# Altium integrated library Altium_WCAP-CSGP (rev22a).IntLib: 953 symbols (part 17 of 17)
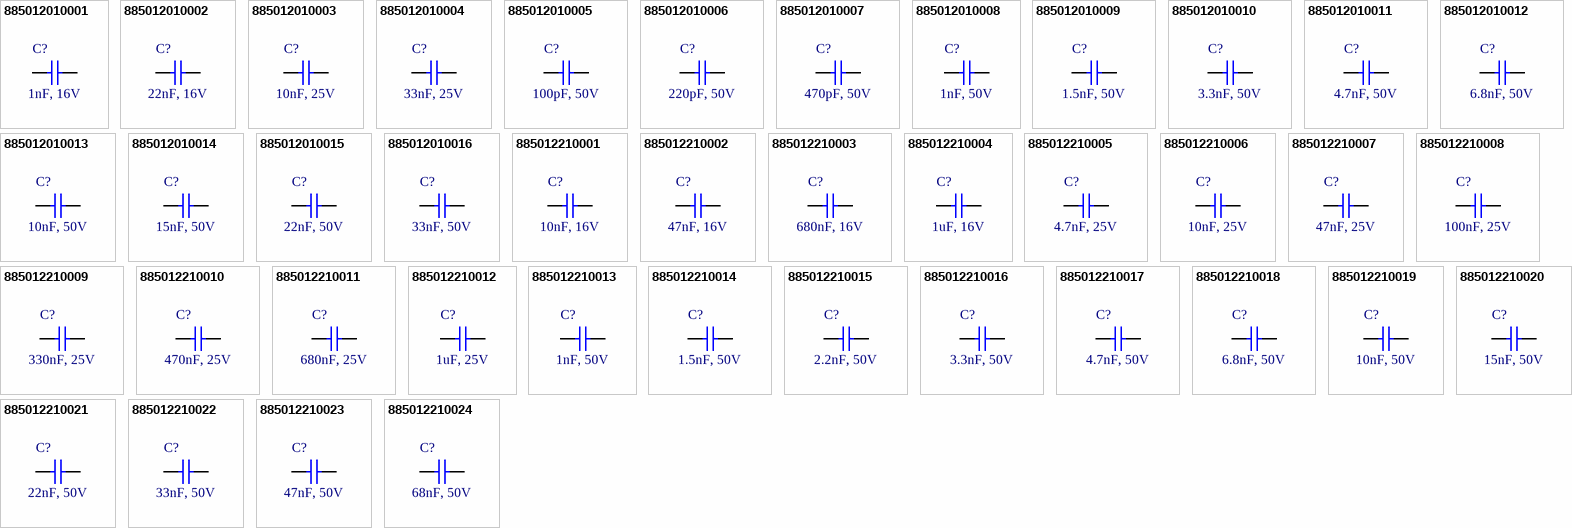
[diagram p43: symbols 885012010001 to 885012210024]

## 885012210010
designator C?, comment 470nF, 25V
WCAP-CSGP Multilayer Ceramic Chip Capacitor, General Purpose, size 1812, X7R, 470nF, 25V; Manufacturer: Wurth Elektronik; Manufacturer Part Number: 885012210010; Capacitance Tolerance: +/-10%; Dissipation Factor: 3.5%; Isolation Resistance: 1.1GOhm; Technical Reference: X7R1812474K025DFCT10000; Capacitance: 470nF; Ceramic Type: X7R; ComponentLink1Description: Manufacturer Link; ComponentLink1URL: http://www.we-online.de; ComponentLink2Description: Datasheet; ComponentLink2URL: https://www.we-online.com/catalog/datasheet/885012210010.pdf; Height: 1.25mm; Length: 4.5mm; Mounting Technology: SMT; Operating Temperature max.: 125C; Operating Temperature min.: -55C; Packaging: Tape and Reel; Rated Voltage: 25V; Size: 1812; Width: 3.2mm
footprint WCAP-CSGP_1812_L4.5W3.2H1.25
pins: 1, 2

## 885012210011
designator C?, comment 680nF, 25V
WCAP-CSGP Multilayer Ceramic Chip Capacitor, General Purpose, size 1812, X7R, 680nF, 25V; Manufacturer: Wurth Elektronik; Manufacturer Part Number: 885012210011; Capacitance Tolerance: +/-10%; Dissipation Factor: 3.5%; Isolation Resistance: 0.7GOhm; Technical Reference: X7R1812684K025DFCT10000; Capacitance: 680nF; Ceramic Type: X7R; ComponentLink1Description: Manufacturer Link; ComponentLink1URL: http://www.we-online.de; ComponentLink2Description: Datasheet; ComponentLink2URL: https://www.we-online.com/catalog/datasheet/885012210011.pdf; Height: 1.25mm; Length: 4.5mm; Mounting Technology: SMT; Operating Temperature max.: 125C; Operating Temperature min.: -55C; Packaging: Tape and Reel; Rated Voltage: 25V; Size: 1812; Width: 3.2mm
footprint WCAP-CSGP_1812_L4.5W3.2H1.25
pins: 1, 2

## 885012210012
designator C?, comment 1uF, 25V
WCAP-CSGP Multilayer Ceramic Chip Capacitor, General Purpose, size 1812, X7R, 1uF, 25V; Manufacturer: Wurth Elektronik; Manufacturer Part Number: 885012210012; Capacitance Tolerance: +/-10%; Dissipation Factor: 3.5%; Isolation Resistance: 0.5GOhm; Technical Reference: X7R1812105K025DFCT10000; Capacitance: 1uF; Ceramic Type: X7R; ComponentLink1Description: Manufacturer Link; ComponentLink1URL: http://www.we-online.de; ComponentLink2Description: Datasheet; ComponentLink2URL: https://www.we-online.com/catalog/datasheet/885012210012.pdf; Height: 1.25mm; Length: 4.5mm; Mounting Technology: SMT; Operating Temperature max.: 125C; Operating Temperature min.: -55C; Packaging: Tape and Reel; Rated Voltage: 25V; Size: 1812; Width: 3.2mm
footprint WCAP-CSGP_1812_L4.5W3.2H1.25
pins: 1, 2

## 885012210013
designator C?, comment 1nF, 50V
WCAP-CSGP Multilayer Ceramic Chip Capacitor, General Purpose, size 1812, X7R, 1nF, 50V; Manufacturer: Wurth Elektronik; Manufacturer Part Number: 885012210013; Capacitance Tolerance: +/-10%; Dissipation Factor: 2.5%; Isolation Resistance: 10GOhm; Technical Reference: X7R1812102K050DFCT10000; Capacitance: 1nF; Ceramic Type: X7R; ComponentLink1Description: Manufacturer Link; ComponentLink1URL: http://www.we-online.de; ComponentLink2Description: Datasheet; ComponentLink2URL: https://www.we-online.com/catalog/datasheet/885012210013.pdf; Height: 1.25mm; Length: 4.5mm; Mounting Technology: SMT; Operating Temperature max.: 125C; Operating Temperature min.: -55C; Packaging: Tape and Reel; Rated Voltage: 50V; Size: 1812; Width: 3.2mm
footprint WCAP-CSGP_1812_L4.5W3.2H1.25
pins: 1, 2

## 885012210014
designator C?, comment 1.5nF, 50V
WCAP-CSGP Multilayer Ceramic Chip Capacitor, General Purpose, size 1812, X7R, 1.5nF, 50V; Manufacturer: Wurth Elektronik; Manufacturer Part Number: 885012210014; Capacitance Tolerance: +/-10%; Dissipation Factor: 2.5%; Isolation Resistance: 10GOhm; Technical Reference: X7R1812152K050DFCT10000; Capacitance: 1.5nF; Ceramic Type: X7R; ComponentLink1Description: Manufacturer Link; ComponentLink1URL: http://www.we-online.de; ComponentLink2Description: Datasheet; ComponentLink2URL: https://www.we-online.com/catalog/datasheet/885012210014.pdf; Height: 1.25mm; Length: 4.5mm; Mounting Technology: SMT; Operating Temperature max.: 125C; Operating Temperature min.: -55C; Packaging: Tape and Reel; Rated Voltage: 50V; Size: 1812; Width: 3.2mm
footprint WCAP-CSGP_1812_L4.5W3.2H1.25
pins: 1, 2

## 885012210015
designator C?, comment 2.2nF, 50V
WCAP-CSGP Multilayer Ceramic Chip Capacitor, General Purpose, size 1812, X7R, 2.2nF, 50V; Manufacturer: Wurth Elektronik; Manufacturer Part Number: 885012210015; Capacitance Tolerance: +/-10%; Dissipation Factor: 2.5%; Isolation Resistance: 10GOhm; Technical Reference: X7R1812222K050DFCT10000; Capacitance: 2.2nF; Ceramic Type: X7R; ComponentLink1Description: Manufacturer Link; ComponentLink1URL: http://www.we-online.de; ComponentLink2Description: Datasheet; ComponentLink2URL: https://www.we-online.com/catalog/datasheet/885012210015.pdf; Height: 1.25mm; Length: 4.5mm; Mounting Technology: SMT; Operating Temperature max.: 125C; Operating Temperature min.: -55C; Packaging: Tape and Reel; Rated Voltage: 50V; Size: 1812; Width: 3.2mm
footprint WCAP-CSGP_1812_L4.5W3.2H1.25
pins: 1, 2

## 885012210016
designator C?, comment 3.3nF, 50V
WCAP-CSGP Multilayer Ceramic Chip Capacitor, General Purpose, size 1812, X7R, 3.3nF, 50V; Manufacturer: Wurth Elektronik; Manufacturer Part Number: 885012210016; Capacitance Tolerance: +/-10%; Dissipation Factor: 2.5%; Isolation Resistance: 10GOhm; Technical Reference: X7R1812332K050DFCT10000; Capacitance: 3.3nF; Ceramic Type: X7R; ComponentLink1Description: Manufacturer Link; ComponentLink1URL: http://www.we-online.de; ComponentLink2Description: Datasheet; ComponentLink2URL: https://www.we-online.com/catalog/datasheet/885012210016.pdf; Height: 1.25mm; Length: 4.5mm; Mounting Technology: SMT; Operating Temperature max.: 125C; Operating Temperature min.: -55C; Packaging: Tape and Reel; Rated Voltage: 50V; Size: 1812; Width: 3.2mm
footprint WCAP-CSGP_1812_L4.5W3.2H1.25
pins: 1, 2

## 885012210017
designator C?, comment 4.7nF, 50V
WCAP-CSGP Multilayer Ceramic Chip Capacitor, General Purpose, size 1812, X7R, 4.7nF, 50V; Manufacturer: Wurth Elektronik; Manufacturer Part Number: 885012210017; Capacitance Tolerance: +/-10%; Dissipation Factor: 2.5%; Isolation Resistance: 10GOhm; Technical Reference: X7R1812472K050DFCT10000; Capacitance: 4.7nF; Ceramic Type: X7R; ComponentLink1Description: Manufacturer Link; ComponentLink1URL: http://www.we-online.de; ComponentLink2Description: Datasheet; ComponentLink2URL: https://www.we-online.com/catalog/datasheet/885012210017.pdf; Height: 1.25mm; Length: 4.5mm; Mounting Technology: SMT; Operating Temperature max.: 125C; Operating Temperature min.: -55C; Packaging: Tape and Reel; Rated Voltage: 50V; Size: 1812; Width: 3.2mm
footprint WCAP-CSGP_1812_L4.5W3.2H1.25
pins: 1, 2

## 885012210018
designator C?, comment 6.8nF, 50V
WCAP-CSGP Multilayer Ceramic Chip Capacitor, General Purpose, size 1812, X7R, 6.8nF, 50V; Manufacturer: Wurth Elektronik; Manufacturer Part Number: 885012210018; Capacitance Tolerance: +/-10%; Dissipation Factor: 2.5%; Isolation Resistance: 10GOhm; Technical Reference: X7R1812682K050DFCT10000; Capacitance: 6.8nF; Ceramic Type: X7R; ComponentLink1Description: Manufacturer Link; ComponentLink1URL: http://www.we-online.de; ComponentLink2Description: Datasheet; ComponentLink2URL: https://www.we-online.com/catalog/datasheet/885012210018.pdf; Height: 1.25mm; Length: 4.5mm; Mounting Technology: SMT; Operating Temperature max.: 125C; Operating Temperature min.: -55C; Packaging: Tape and Reel; Rated Voltage: 50V; Size: 1812; Width: 3.2mm
footprint WCAP-CSGP_1812_L4.5W3.2H1.25
pins: 1, 2

## 885012210019
designator C?, comment 10nF, 50V
WCAP-CSGP Multilayer Ceramic Chip Capacitor, General Purpose, size 1812, X7R, 10nF, 50V; Manufacturer: Wurth Elektronik; Manufacturer Part Number: 885012210019; Capacitance Tolerance: +/-10%; Dissipation Factor: 2.5%; Isolation Resistance: 10GOhm; Technical Reference: X7R1812103K050DFCT10000; Capacitance: 10nF; Ceramic Type: X7R; ComponentLink1Description: Manufacturer Link; ComponentLink1URL: http://www.we-online.de; ComponentLink2Description: Datasheet; ComponentLink2URL: https://www.we-online.com/catalog/datasheet/885012210019.pdf; Height: 1.25mm; Length: 4.5mm; Mounting Technology: SMT; Operating Temperature max.: 125C; Operating Temperature min.: -55C; Packaging: Tape and Reel; Rated Voltage: 50V; Size: 1812; Width: 3.2mm
footprint WCAP-CSGP_1812_L4.5W3.2H1.25
pins: 1, 2

## 885012210020
designator C?, comment 15nF, 50V
WCAP-CSGP Multilayer Ceramic Chip Capacitor, General Purpose, size 1812, X7R, 15nF, 50V; Manufacturer: Wurth Elektronik; Manufacturer Part Number: 885012210020; Capacitance Tolerance: +/-10%; Dissipation Factor: 2.5%; Isolation Resistance: 10GOhm; Technical Reference: X7R1812153K050DFCT10000; Capacitance: 15nF; Ceramic Type: X7R; ComponentLink1Description: Manufacturer Link; ComponentLink1URL: http://www.we-online.de; ComponentLink2Description: Datasheet; ComponentLink2URL: https://www.we-online.com/catalog/datasheet/885012210020.pdf; Height: 1.25mm; Length: 4.5mm; Mounting Technology: SMT; Operating Temperature max.: 125C; Operating Temperature min.: -55C; Packaging: Tape and Reel; Rated Voltage: 50V; Size: 1812; Width: 3.2mm
footprint WCAP-CSGP_1812_L4.5W3.2H1.25
pins: 1, 2

## 885012210021
designator C?, comment 22nF, 50V
WCAP-CSGP Multilayer Ceramic Chip Capacitor, General Purpose, size 1812, X7R, 22nF, 50V; Manufacturer: Wurth Elektronik; Manufacturer Part Number: 885012210021; Capacitance Tolerance: +/-10%; Dissipation Factor: 2.5%; Isolation Resistance: 10GOhm; Technical Reference: X7R1812223K050DFCT10000; Capacitance: 22nF; Ceramic Type: X7R; ComponentLink1Description: Manufacturer Link; ComponentLink1URL: http://www.we-online.de; ComponentLink2Description: Datasheet; ComponentLink2URL: https://www.we-online.com/catalog/datasheet/885012210021.pdf; Height: 1.25mm; Length: 4.5mm; Mounting Technology: SMT; Operating Temperature max.: 125C; Operating Temperature min.: -55C; Packaging: Tape and Reel; Rated Voltage: 50V; Size: 1812; Width: 3.2mm
footprint WCAP-CSGP_1812_L4.5W3.2H1.25
pins: 1, 2

## 885012210022
designator C?, comment 33nF, 50V
WCAP-CSGP Multilayer Ceramic Chip Capacitor, General Purpose, size 1812, X7R, 33nF, 50V; Manufacturer: Wurth Elektronik; Manufacturer Part Number: 885012210022; Capacitance Tolerance: +/-10%; Dissipation Factor: 2.5%; Isolation Resistance: 10GOhm; Technical Reference: X7R1812333K050DFCT10000; Capacitance: 33nF; Ceramic Type: X7R; ComponentLink1Description: Manufacturer Link; ComponentLink1URL: http://www.we-online.de; ComponentLink2Description: Datasheet; ComponentLink2URL: https://www.we-online.com/catalog/datasheet/885012210022.pdf; Height: 1.25mm; Length: 4.5mm; Mounting Technology: SMT; Operating Temperature max.: 125C; Operating Temperature min.: -55C; Packaging: Tape and Reel; Rated Voltage: 50V; Size: 1812; Width: 3.2mm
footprint WCAP-CSGP_1812_L4.5W3.2H1.25
pins: 1, 2

## 885012210023
designator C?, comment 47nF, 50V
WCAP-CSGP Multilayer Ceramic Chip Capacitor, General Purpose, size 1812, X7R, 47nF, 50V; Manufacturer: Wurth Elektronik; Manufacturer Part Number: 885012210023; Capacitance Tolerance: +/-10%; Dissipation Factor: 2.5%; Isolation Resistance: 10GOhm; Technical Reference: X7R1812473K050DFCT10000; Capacitance: 47nF; Ceramic Type: X7R; ComponentLink1Description: Manufacturer Link; ComponentLink1URL: http://www.we-online.de; ComponentLink2Description: Datasheet; ComponentLink2URL: https://www.we-online.com/catalog/datasheet/885012210023.pdf; Height: 1.25mm; Length: 4.5mm; Mounting Technology: SMT; Operating Temperature max.: 125C; Operating Temperature min.: -55C; Packaging: Tape and Reel; Rated Voltage: 50V; Size: 1812; Width: 3.2mm
footprint WCAP-CSGP_1812_L4.5W3.2H1.25
pins: 1, 2

## 885012210024
designator C?, comment 68nF, 50V
WCAP-CSGP Multilayer Ceramic Chip Capacitor, General Purpose, size 1812, X7R, 68nF, 50V; Manufacturer: Wurth Elektronik; Manufacturer Part Number: 885012210024; Capacitance Tolerance: +/-10%; Dissipation Factor: 2.5%; Isolation Resistance: 7.4GOhm; Technical Reference: X7R1812683K050DFCT10000; Capacitance: 68nF; Ceramic Type: X7R; ComponentLink1Description: Manufacturer Link; ComponentLink1URL: http://www.we-online.de; ComponentLink2Description: Datasheet; ComponentLink2URL: https://www.we-online.com/catalog/datasheet/885012210024.pdf; Height: 1.25mm; Length: 4.5mm; Mounting Technology: SMT; Operating Temperature max.: 125C; Operating Temperature min.: -55C; Packaging: Tape and Reel; Rated Voltage: 50V; Size: 1812; Width: 3.2mm
footprint WCAP-CSGP_1812_L4.5W3.2H1.25
pins: 1, 2

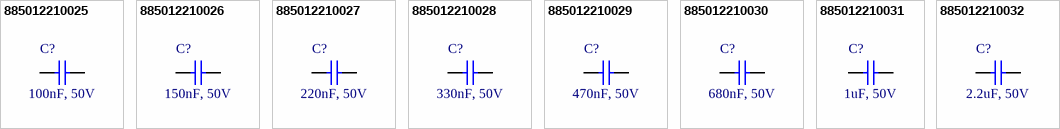
[diagram p27: symbols 885012210025 to 885012210032]

## 885012210025
designator C?, comment 100nF, 50V
WCAP-CSGP Multilayer Ceramic Chip Capacitor, General Purpose, size 1812, X7R, 100nF, 50V; Manufacturer: Wurth Elektronik; Manufacturer Part Number: 885012210025; Capacitance Tolerance: +/-10%; Dissipation Factor: 2.5%; Isolation Resistance: 5GOhm; Technical Reference: X7R1812104K050DFCT10000; Capacitance: 100nF; Ceramic Type: X7R; ComponentLink1Description: Manufacturer Link; ComponentLink1URL: http://www.we-online.de; ComponentLink2Description: Datasheet; ComponentLink2URL: https://www.we-online.com/catalog/datasheet/885012210025.pdf; Height: 1.25mm; Length: 4.5mm; Mounting Technology: SMT; Operating Temperature max.: 125C; Operating Temperature min.: -55C; Packaging: Tape and Reel; Rated Voltage: 50V; Size: 1812; Width: 3.2mm
footprint WCAP-CSGP_1812_L4.5W3.2H1.25
pins: 1, 2

## 885012210026
designator C?, comment 150nF, 50V
WCAP-CSGP Multilayer Ceramic Chip Capacitor, General Purpose, size 1812, X7R, 150nF, 50V; Manufacturer: Wurth Elektronik; Manufacturer Part Number: 885012210026; Capacitance Tolerance: +/-10%; Dissipation Factor: 2.5%; Isolation Resistance: 3.3GOhm; Technical Reference: X7R1812154K050DFCT10000; Capacitance: 150nF; Ceramic Type: X7R; ComponentLink1Description: Manufacturer Link; ComponentLink1URL: http://www.we-online.de; ComponentLink2Description: Datasheet; ComponentLink2URL: https://www.we-online.com/catalog/datasheet/885012210026.pdf; Height: 1.25mm; Length: 4.5mm; Mounting Technology: SMT; Operating Temperature max.: 125C; Operating Temperature min.: -55C; Packaging: Tape and Reel; Rated Voltage: 50V; Size: 1812; Width: 3.2mm
footprint WCAP-CSGP_1812_L4.5W3.2H1.25
pins: 1, 2

## 885012210027
designator C?, comment 220nF, 50V
WCAP-CSGP Multilayer Ceramic Chip Capacitor, General Purpose, size 1812, X7R, 220nF, 50V; Manufacturer: Wurth Elektronik; Manufacturer Part Number: 885012210027; Capacitance Tolerance: +/-10%; Dissipation Factor: 2.5%; Isolation Resistance: 2.3GOhm; Technical Reference: X7R1812224K050DFCT10000; Capacitance: 220nF; Ceramic Type: X7R; ComponentLink1Description: Manufacturer Link; ComponentLink1URL: http://www.we-online.de; ComponentLink2Description: Datasheet; ComponentLink2URL: https://www.we-online.com/catalog/datasheet/885012210027.pdf; Height: 1.25mm; Length: 4.5mm; Mounting Technology: SMT; Operating Temperature max.: 125C; Operating Temperature min.: -55C; Packaging: Tape and Reel; Rated Voltage: 50V; Size: 1812; Width: 3.2mm
footprint WCAP-CSGP_1812_L4.5W3.2H1.25
pins: 1, 2

## 885012210028
designator C?, comment 330nF, 50V
WCAP-CSGP Multilayer Ceramic Chip Capacitor, General Purpose, size 1812, X7R, 330nF, 50V; Manufacturer: Wurth Elektronik; Manufacturer Part Number: 885012210028; Capacitance Tolerance: +/-10%; Dissipation Factor: 2.5%; Isolation Resistance: 1.5GOhm; Technical Reference: X7R1812334K050DFCT10000; Capacitance: 330nF; Ceramic Type: X7R; ComponentLink1Description: Manufacturer Link; ComponentLink1URL: http://www.we-online.de; ComponentLink2Description: Datasheet; ComponentLink2URL: https://www.we-online.com/catalog/datasheet/885012210028.pdf; Height: 1.25mm; Length: 4.5mm; Mounting Technology: SMT; Operating Temperature max.: 125C; Operating Temperature min.: -55C; Packaging: Tape and Reel; Rated Voltage: 50V; Size: 1812; Width: 3.2mm
footprint WCAP-CSGP_1812_L4.5W3.2H1.25
pins: 1, 2

## 885012210029
designator C?, comment 470nF, 50V
WCAP-CSGP Multilayer Ceramic Chip Capacitor, General Purpose, size 1812, X7R, 470nF, 50V; Manufacturer: Wurth Elektronik; Manufacturer Part Number: 885012210029; Capacitance Tolerance: +/-10%; Dissipation Factor: 2.5%; Isolation Resistance: 1.1GOhm; Technical Reference: X7R1812474K050DFCT10000; Capacitance: 470nF; Ceramic Type: X7R; ComponentLink1Description: Manufacturer Link; ComponentLink1URL: http://www.we-online.de; ComponentLink2Description: Datasheet; ComponentLink2URL: https://www.we-online.com/catalog/datasheet/885012210029.pdf; Height: 1.25mm; Length: 4.5mm; Mounting Technology: SMT; Operating Temperature max.: 125C; Operating Temperature min.: -55C; Packaging: Tape and Reel; Rated Voltage: 50V; Size: 1812; Width: 3.2mm
footprint WCAP-CSGP_1812_L4.5W3.2H1.25
pins: 1, 2

## 885012210030
designator C?, comment 680nF, 50V
WCAP-CSGP Multilayer Ceramic Chip Capacitor, General Purpose, size 1812, X7R, 680nF, 50V; Manufacturer: Wurth Elektronik; Manufacturer Part Number: 885012210030; Capacitance Tolerance: +/-10%; Dissipation Factor: 2.5%; Isolation Resistance: 0.7GOhm; Technical Reference: X7R1812684K050DFCT10000; Capacitance: 680nF; Ceramic Type: X7R; ComponentLink1Description: Manufacturer Link; ComponentLink1URL: http://www.we-online.de; ComponentLink2Description: Datasheet; ComponentLink2URL: https://www.we-online.com/catalog/datasheet/885012210030.pdf; Height: 2mm; Length: 4.5mm; Mounting Technology: SMT; Operating Temperature max.: 125C; Operating Temperature min.: -55C; Packaging: Tape and Reel; Rated Voltage: 50V; Size: 1812; Width: 3.2mm
footprint WCAP-CSGP_1812_L4.5W3.2H2
pins: 1, 2

## 885012210031
designator C?, comment 1uF, 50V
WCAP-CSGP Multilayer Ceramic Chip Capacitor, General Purpose, size 1812, X7R, 1uF, 50V; Manufacturer: Wurth Elektronik; Manufacturer Part Number: 885012210031; Capacitance Tolerance: +/-10%; Dissipation Factor: 2.5%; Isolation Resistance: 0.5GOhm; Technical Reference: X7R1812105K050DFCT10000; Capacitance: 1uF; Ceramic Type: X7R; ComponentLink1Description: Manufacturer Link; ComponentLink1URL: http://www.we-online.de; ComponentLink2Description: Datasheet; ComponentLink2URL: https://www.we-online.com/catalog/datasheet/885012210031.pdf; Height: 2mm; Length: 4.5mm; Mounting Technology: SMT; Operating Temperature max.: 125C; Operating Temperature min.: -55C; Packaging: Tape and Reel; Rated Voltage: 50V; Size: 1812; Width: 3.2mm
footprint WCAP-CSGP_1812_L4.5W3.2H2
pins: 1, 2

## 885012210032
designator C?, comment 2.2uF, 50V
WCAP-CSGP Multilayer Ceramic Chip Capacitor, General Purpose, size 1812, X7R, 2.2uF, 50V; Manufacturer: Wurth Elektronik; Manufacturer Part Number: 885012210032; Capacitance Tolerance: +/-10%; Dissipation Factor: 2.5%; Isolation Resistance: 0.2GOhm; Technical Reference: X7R1812225K050DFCT10000; Capacitance: 2.2uF; Ceramic Type: X7R; ComponentLink1Description: Manufacturer Link; ComponentLink1URL: http://www.we-online.de; ComponentLink2Description: Datasheet; ComponentLink2URL: https://www.we-online.com/catalog/datasheet/885012210032.pdf; Height: 2.5mm; Length: 4.5mm; Mounting Technology: SMT; Operating Temperature max.: 125C; Operating Temperature min.: -55C; Packaging: Tape and Reel; Rated Voltage: 50V; Size: 1812; Width: 3.2mm
footprint WCAP-CSGP_1812_L4.5W3.2H2.5
pins: 1, 2